# Altium footprint library PCB - CAPACITOR - ALUMINIUM - CAP ALSMD ELEC 8.4MM H10.5MM.pcblib: 1 footprints
Each footprint in its own frame and in the unit in brackets; x right, y up, seen from the top. Pads: shape width x height; smd on the part's side, far side on the other; paste and mask are expansions set on the pad; w line width, h text height; cw(c..) or ccw(c..) is an arc to the next point about the centre after c.
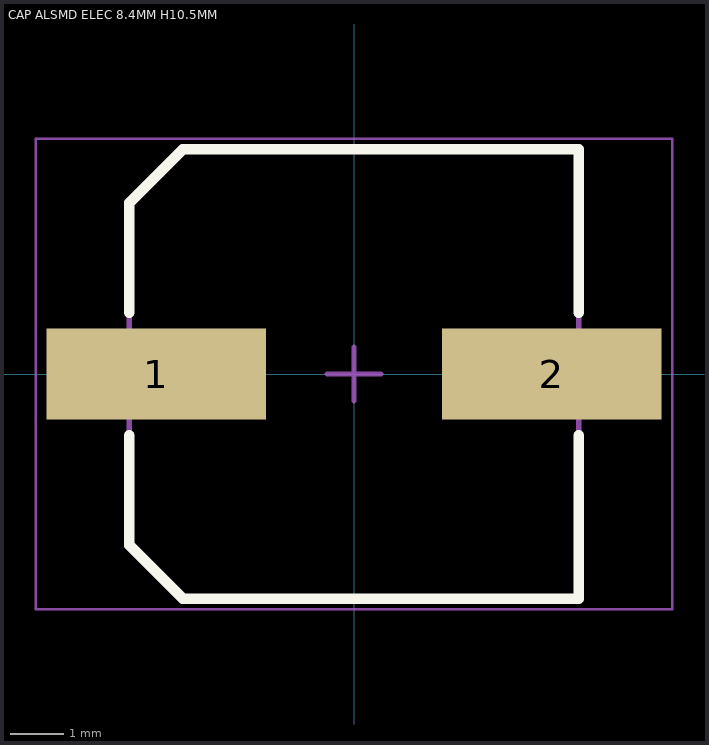
[diagram p0: the footprint, top view; thin cyan lines are the x and y axes]

## CAP ALSMD ELEC 8.4MM H10.5MM [mm] "Aluminum SMD Electrolytic Capacitor, 8.40mm Land Size, 8.00mm Diameter, 10.50mm Height, 9.40mm Maximum Leads Span"
height 0.85
pads (2):
  rect 4.1x1.7 smd: 1(-3.7,0) 2(3.7,0)
Top Overlay:
  lines w0.2: -4.2,-1.15 -4.2,-3.2 -3.2,-4.2 4.2,-4.2 4.2,-1.15 ; -4.2,1.15 -4.2,3.2 -3.2,4.2 4.2,4.2 4.2,1.15
Mechanical 13:
  lines w0.1: -4.2,-3.2 -4.2,3.2 -3.2,4.2 4.2,4.2 4.2,-4.2 -3.2,-4.2 -4.2,-3.2
Mechanical 15:
  lines w0.05: -5.95,-4.4 -5.95,4.4 5.95,4.4 5.95,-4.4 -5.95,-4.4
  lines w0.1: -0.5,0 0.5,0 ; 0,-0.5 0,0.5
3D body: height 10.5, standoff 0, extent -4.7,-4.2 4.7,4.2